# EAGLE library part SP2526A-2EN-L (library Exar_By_element14_Batch_1)
Dual channel USB power Distribution switch
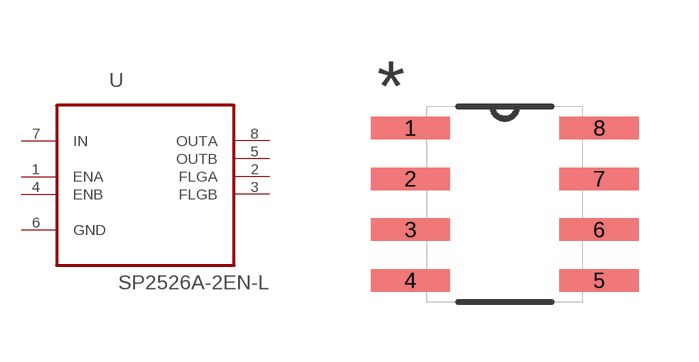
[diagram p10: symbol with the pads of SOIC127P600X175-8N; footprint SOIC127P600X175-8N]

Designator prefix U

## SP2526A-2EN-L (MPN: SP2526A-2EN-L; OC_FARNELL: 1762876; OC_NEWARK: 24R0116; PACKAGE: SOIC-8; SUPPLIER: Exar)  [SOIC127P600X175-8N]
1  ENA  in
2  FLGA  out
3  FLGB  out
4  ENB  in
5  OUTB  out
6  GND  pas
7  IN  pwr
8  OUTA  out

## Footprint SOIC127P600X175-8N (pad centres in mm)
smd 1.981 x 0.559: 1 -2.362,1.905; 2 -2.362,0.635; 3 -2.362,-0.635; 4 -2.362,-1.905; 5 2.362,-1.905; 6 2.362,-0.635; 7 2.362,0.635; 8 2.362,1.905